# Altium schematic symbol library SparkFun-FreqCtrl.SCHLIB: 12 symbols
Pins are listed as number, name and electrical type; pins without a type are passive.

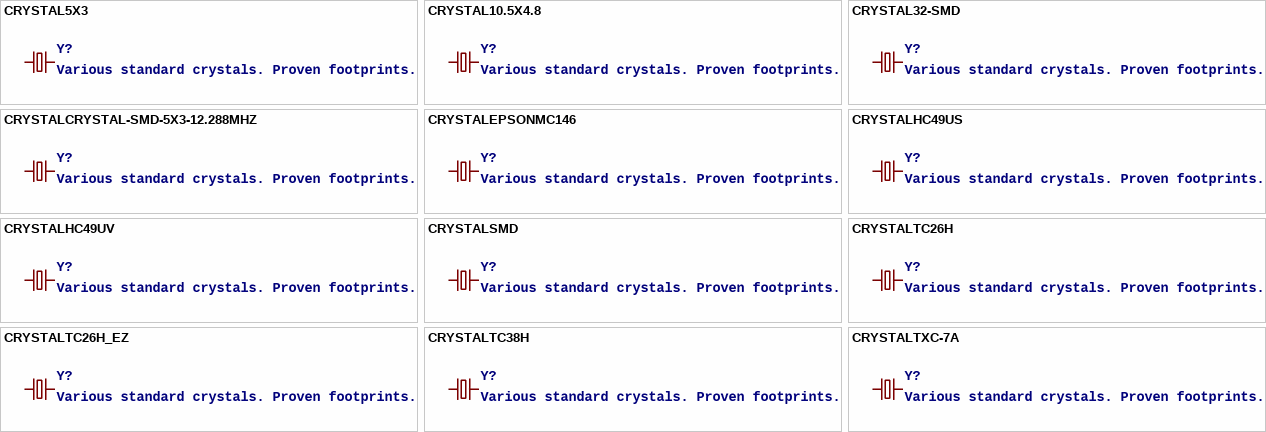
[diagram p0: symbols CRYSTAL5X3 to CRYSTALTXC-7A]

## CRYSTAL5X3
designator Y?, comment Various standard crystals. Proven footprints.
PROD_ID: XTAL-08218
footprint CRYSTAL-SMD-5X3
pins: 1, 3 2

## CRYSTAL10.5X4.8
designator Y?, comment Various standard crystals. Proven footprints.
footprint CRYSTAL-SMD-10.5X4.8-2PIN
pins: P$1 1, P$2 2

## CRYSTAL32-SMD
designator Y?, comment Various standard crystals. Proven footprints.
PROD_ID: XTAL-07894
footprint CRYSTAL-32KHZ-SMD
pins: X1 1, X2 2

## CRYSTALCRYSTAL-SMD-5X3-12.288MHZ
designator Y?, comment Various standard crystals. Proven footprints.
PROD_ID: XTAL-09653
footprint CRYSTAL-SMD-5X3
pins: 1, 3 2

## CRYSTALEPSONMC146
designator Y?, comment Various standard crystals. Proven footprints.
footprint CRYSTAL-32KHZ-SMD_EPSON_MC146
pins: P$1 2, P$2 1

## CRYSTALHC49US
designator Y?, comment Various standard crystals. Proven footprints.
footprint HC49US
pins: 1, 2

## CRYSTALHC49UV
designator Y?, comment Various standard crystals. Proven footprints.
footprint HC49U-V
pins: 1, 2

## CRYSTALSMD
designator Y?, comment Various standard crystals. Proven footprints.
footprint HC49UP
pins: 1, 2

## CRYSTALTC26H
designator Y?, comment Various standard crystals. Proven footprints.
PROD_ID: XTAL-10112
footprint TC26H
pins: 1, 2

## CRYSTALTC26H_EZ
designator Y?, comment Various standard crystals. Proven footprints.
footprint TC26HEZ
pins: 1, 2

## CRYSTALTC38H
designator Y?, comment Various standard crystals. Proven footprints.
footprint TC38H
pins: 1, 2

## CRYSTALTXC-7A
designator Y?, comment Various standard crystals. Proven footprints.
footprint CRYSTAL-TXC-7A
pins: P$1 1, P$2 2